# Altium schematic symbol library crystal.SchLib: 2 symbols
Pins are listed as number, name and electrical type; pins without a type are passive.

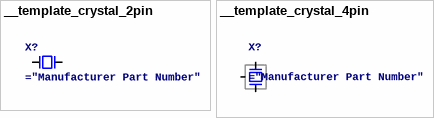
[diagram p0: symbols __template_crystal_2pin to __template_crystal_4pin]

## __template_crystal_2pin
designator X?
2-pin crystal
pins: 1, 2

## __template_crystal_4pin
designator X?
4-pin crystal with case pins 2 and 4
pins: 1, 2, 3, 4